# EAGLE library part LM1815 (library rnie04)
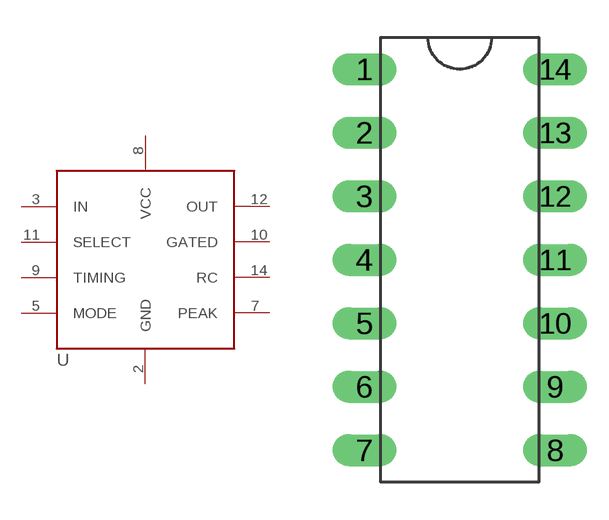
[diagram p4: symbol with the pads of DIL14; footprint DIL14]

Designator prefix -

## LM1815  [DIL14]
2  GND  pwr
3  IN  in
5  MODE  in
7  PEAK
8  VCC  pwr
9  TIMING  in
10  GATED  out
11  SELECT  in
12  OUT  out
14  RC

## Footprint DIL14 (pad centres in mm)
drill 0.5 pad 1.27 long: 1 -3.81,7.62; 2 -3.81,5.08; 3 -3.81,2.54; 4 -3.81,0; 5 -3.81,-2.54; 6 -3.81,-5.08; 7 -3.81,-7.62; 8 3.81,-7.62; 9 3.81,-5.08; 10 3.81,-2.54; 11 3.81,0; 12 3.81,2.54; 13 3.81,5.08; 14 3.81,7.62